# EAGLE library part IF_USB_SW_MAX4899E (library !GPLIB_ACTIVE)
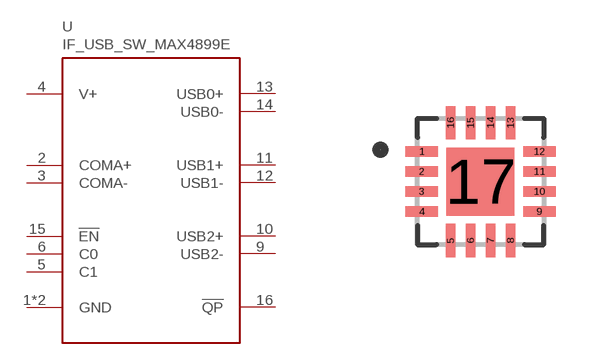
[diagram p14: symbol with the pads of QFN50P300X300X80-17N; footprint QFN50P300X300X80-17N]

Designator prefix U

## IF_USB_SW_MAX4899E_MAX4899EETE+T  [QFN50P300X300X80-17N]
1  GND  pwr
2  COMA+
3  COMA-
4  V+  pwr
5  C1  in
6  C0  in
9  USB2-
10  USB2+
11  USB1+
12  USB1-
13  USB0+
14  USB0-
15  !EN  in
16  !QP  in
17  GND  pwr

## Footprint QFN50P300X300X80-17N (pad centres in mm)
smd 0.83 x 0.26: 1 -1.47,0.75; 2 -1.47,0.25; 3 -1.47,-0.25; 4 -1.47,-0.75; 9 1.47,-0.75; 10 1.47,-0.25; 11 1.47,0.25; 12 1.47,0.75
smd 0.26 x 0.83: 5 -0.75,-1.47; 6 -0.25,-1.47; 7 0.25,-1.47; 8 0.75,-1.47; 13 0.75,1.47; 14 0.25,1.47; 15 -0.25,1.47; 16 -0.75,1.47
smd 1.7 x 1.7: 17 0,0